# EAGLE library part SNO_MISSING_PINS (library New_Parts)
Alorium Technology - Snō Source: Mechanical Drawing <https://www.aloriumtech.com/documents/Sno_Mechanical_Drawing.pdf> Pin Map <https://www.aloriumtech.com/documents/Sno_Pin_Map.pdf> Schematic <https://www.aloriumtech.com/documents/Sno_Schematic.pdf>
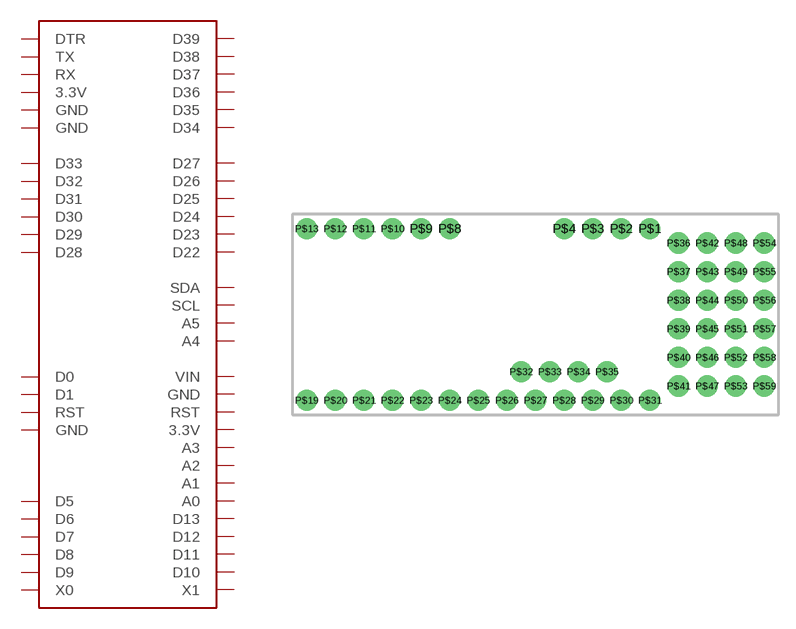
[diagram p2: symbol with the pads of SNO_MISSING_PINS; footprint SNO_MISSING_PINS]

Designator prefix -

## SNO_MISSING_PINS  [SNO_MISSING_PINS]
P$1  D0
P$2  D1
P$3  RST  in
P$4  GND
P$8  D5
P$9  D6
P$10  D7
P$11  D8
P$12  D9
P$13  X0
P$19  X1
P$20  D10
P$21  D11
P$22  D12
P$23  D13
P$24  A0
P$25  A1
P$26  A2
P$27  A3
P$28  3.3V
P$29  RST  in
P$30  GND  pwr
P$31  VIN  pwr
P$32  A4
P$33  A5
P$34  SCL
P$35  SDA
P$36  D22
P$37  D23
P$38  D24
P$39  D25
P$40  D26
P$41  D27
P$42  D28
P$43  D29
P$44  D30
P$45  D31
P$46  D32
P$47  D33
P$48  D34
P$49  D35
P$50  D36
P$51  D37
P$52  D38
P$53  D39
P$54  GND  pwr
P$55  GND  pwr
P$56  3.3V  pwr
P$57  RX
P$58  TX
P$59  DTR

## Footprint SNO_MISSING_PINS (pad centres in mm)
Alorium Technology - Snō Source: Mechanical Drawing <https://www.aloriumtech.com/documents/Sno_Mechanical_Drawing.pdf> Pin Map <https://www.aloriumtech.com/documents/Sno_Pin_Map.pdf> Schematic <https://www.aloriumtech.com/documents/Sno_Schematic.pdf>
drill 1.016 pad 1.88: P$1 10.16,7.62; P$2 7.62,7.62; P$3 5.08,7.62; P$4 2.54,7.62; P$8 -7.62,7.62; P$9 -10.16,7.62; P$10 -12.7,7.62; P$11 -15.24,7.62; P$12 -17.78,7.62; P$13 -20.32,7.62; P$19 -20.32,-7.62; P$20 -17.78,-7.62; P$21 -15.24,-7.62; P$22 -12.7,-7.62; P$23 -10.16,-7.62; P$24 -7.62,-7.62; P$25 -5.08,-7.62; P$26 -2.54,-7.62; P$27 0,-7.62; P$28 2.54,-7.62; P$29 5.08,-7.62; P$30 7.62,-7.62; P$31 10.16,-7.62; P$32 -1.27,-5.08; P$33 1.27,-5.08; P$34 3.81,-5.08; P$35 6.35,-5.08; P$36 12.7,6.35; P$37 12.7,3.81; P$38 12.7,1.27; P$39 12.7,-1.27; P$40 12.7,-3.81; P$41 12.7,-6.35; P$42 15.24,6.35; P$43 15.24,3.81; P$44 15.24,1.27; P$45 15.24,-1.27; P$46 15.24,-3.81; P$47 15.24,-6.35; P$48 17.78,6.35; P$49 17.78,3.81; P$50 17.78,1.27; P$51 17.78,-1.27; P$52 17.78,-3.81; P$53 17.78,-6.35; P$54 20.32,6.35; P$55 20.32,3.81; P$56 20.32,1.27; P$57 20.32,-1.27; P$58 20.32,-3.81; P$59 20.32,-6.35